# Altium integrated library pi_mipi_dsp.IntLib: 23 symbols
Pins are listed as number, name and electrical type; pins without a type are passive.

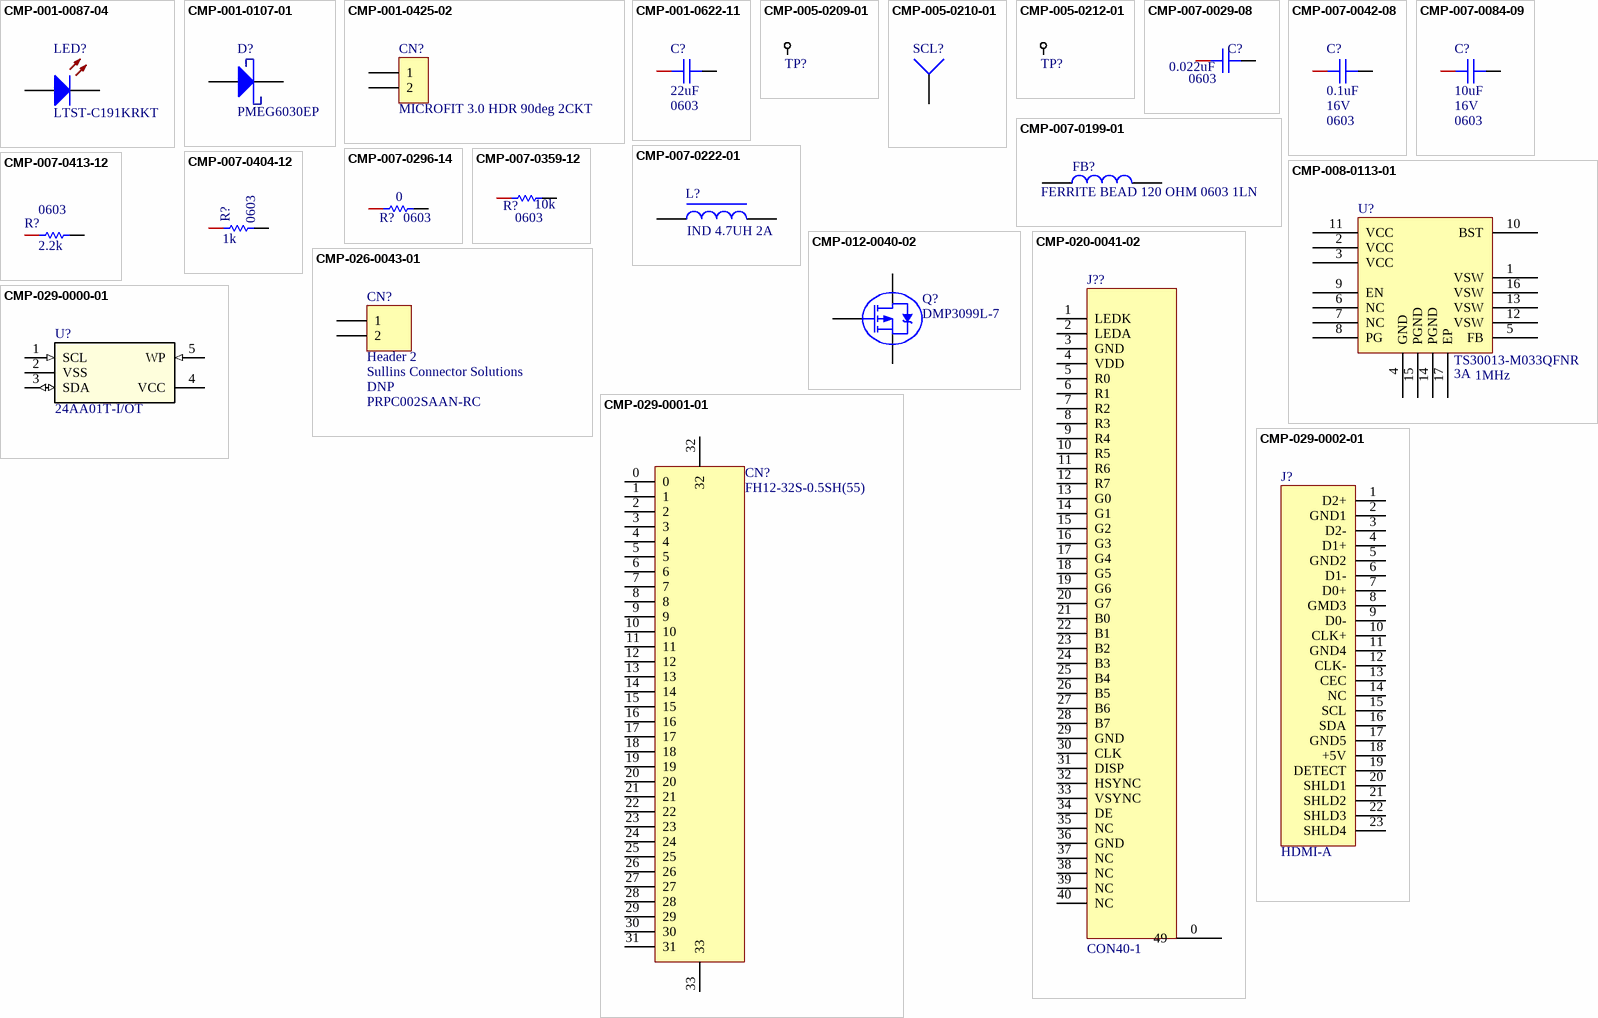
[diagram p0: symbols CMP-001-0087-04 to CMP-029-0002-01]

## CMP-001-0087-04
designator LED?, comment LTST-C191KRKT
0603 SMD RED LED; Manufacturer: Lite-On Inc.; Manufacturer 1: Vishay Lite-On; Lens Style/Size: Rectangle with Flat Top, 1.10mm x 0.80mm; Lens Transparency: Clear; Wavelength - Peak: 639nm; Viewing Angle: 130°; Millicandela Rating: 54mcd; Current - Test: 20mA; Wavelength - Dominant: 631nm; Voltage - Forward (Vf) (Typ): 2V; Lens Color: Colorless; RoHS: RoHS Compliant; Mounting Type: Surface Mount; Color: Red; Packaging: Cut Tape (CT); Part Status: Active; Package / Case: 0603 (1608 Metric); Height: 0.65mm; Size / Dimension: 1.60mm L x 0.80mm W; Pricing 1: 1=0.29, 10=0.211, 25=0.1556, 100=0.1111, 250=0.07556, 500=0.06666, 1000=0.05222, 2500=0.05111 (USD); Pin Count: 2; Stock 1: 513530; Manufacturer Part Number: LTST-C191KRKT; Designator: LTST-C191KRKT; ClassName: *; Manufacturer Part Number 1: LTST-C191KRKT; Component Type: Diode
footprint SM-LED-0603 (0603 LED)
pins: 1 Anode, 2 Cathode

## CMP-001-0107-01
designator D?, comment PMEG6030EP
Schottky Barrier Rectifier 3A 60V; Manufacturer: NXP Semiconductors; Manufacturer Part Number: PMEG6030EP,115; Manufacturer Part Number 1: PMEG6030EP115; Speed: Fast Recovery =< 500ns, > 200mA (Io); Voltage - Forward (Vf) (Max) @ If: 530mV @ 3A; Capacitance @ Vr, F: 360pF @ 1V, 1MHz; Current - Reverse Leakage @ Vr: 200µA @ 60V; Current - Average Rectified (Io): 3A; Packaging: Cut Tape (CT); Stock 1: 40077; Diode Type: Schottky; Supplier Device Package: SOD-128; Operating Temperature - Junction: 150°C (Max); Package / Case: SOD-128; Voltage - DC Reverse (Vr) (Max): 60V; Component Name: PMEG6030EP; ComponentLink1Description: http://www.nxp.com/documents/data_sheet/PMEG6030EP.pdf; ComponentLink1URL: http://www.nxp.com/documents/data_sheet/PMEG6030EP.pdf; Designator: PMEG6030EP; RoHS: RoHS Compliant; Mounting Type: Surface Mount; ClassName: HVolt; Pricing 1: 1=0.45, 10=0.387, 100=0.289, 500=0.227, 1000=0.175 (USD); Reverse Recovery Time (trr): -; Pin Count: 2; Manufacturer 1: NXP Semiconductors; Component Type: Diode
footprint SOD128 (Small Outline Diode 6.2x3.4mm)
pins: 1 A, 2 K

## CMP-001-0425-02
designator CN?, comment MICROFIT 3.0 HDR 90deg 2CKT
Molex Microfit 1x2 90deg Header; Manufacturer Part Number: 43650-0204; Number of Positions: 2; Pitch: 3 mm; Voltage Rating: 600 V; Mounting Angle: Right; Current Rating: 5 A; Contact Plating: Gold; Series: 43650; RoHS: RoHS Compliant; Minimum Order Quantity: 1; Product Category: Micro-Fit 3.0 Connectors; ComponentLink1Description: http://www.mouser.com/ds/2/276/0436500204_PCB_HEADERS-168465.pdf; Type: Shrouded; Designator: MICROFIT 3.0 HDR 90deg 2CKT; Reeling: False; Stock 1: 3217; Packaging: Tray; ComponentLink1URL: http://www.mouser.com/ds/2/276/0436500204_PCB_HEADERS-168465.pdf; Standard Pack Qty: 3927; Number of Rows: 1; Component Name: MICROFIT 3.0 HDR 90deg 2CKT; Manufacturer: Molex; Housing Material: Thermoplastic; Termination Style: Through Hole; Product Type: Headers; Brand: Molex; Mounting Style: -; Tradename: Micro-Fit 3.0; Pin Count: 2; Pricing 1: 1=1.55, 10=1.23, 100=1.01, 500=0.961, 1000=0.855, 2000=0.710 (AUD); ClassName: *; RoHS - Mouser: Y; Contact Material: Brass; Manufacturer 1: Molex; Manufacturer Part Number 1: 43650-0204; Component Type: Connector
footprint Molex 1x2 Microfit 90deg (Connector; Header; 1x2 Position)
pins: 1, 2

## CMP-001-0622-11
designator C?, comment 22uF  Package (Imperial): 0603
CAP CER 22UF 10V 20% 0603; Manufacturer 1: TDK; Manufacturer Part Number 1: C1608X5R1A226M080AC; Voltage (Rated): 100V; Dielectric Material: Ceramic; Temperature Coefficient: X5R; Temperature (Min): -55°C; Package (Metric): 1608; Capacitance: 22µF; Temperature (Max): 85°C; Mounting Type: SMD; Tolerance: 20%; Height: 800µm; Length: 1.6mm; Component Type: Ceramic
footprint CAPC0603(1608)_L (Chip Capacitor, Body 1.6x0.8mm, Height 1.0mm, IPC High Density)
footprint CAPC0603(1608)_M (Chip Capacitor, Body 1.6x0.8mm, Height 1.0mm, IPC Low Density)
footprint CAPC0603(1608)_N (Chip Capacitor, Body 1.6x0.8mm, Height 1.0mm, IPC Medium Density)
pins: 1, 2
1 alternate drawing of the same symbol

## CMP-005-0209-01
designator TP?, comment TestPoint, small  (value not drawn)  (no BOM)
Test Point; Component Name: TestPoint, small; Pin Count: 1; Designator: TestPoint, small
footprint TestPoint-SM (Test Point - Top Pad Only)
footprint HDR1X1 (Connector; Header; 1 Position)
footprint TESTPOINT-2 HOLE
footprint TestPoint-BIG (Test Point - Top Pad Only)
footprint TestPoint-MD (Test Point - Top Pad Only)
footprint TestPoint-TH 20 mil (Test Point - Thru-Hole 20 mil)
footprint TestPoint-TH 35 mil (Test Point - Thru-Hole 38 mil)
footprint TestPoint-TH 42 mil (Test Point - Thru-Hole 42 mil)
pins: 1

## CMP-005-0210-01
designator SCL?, comment TestPoint_BLK  (value not drawn)  (no BOM)
Test Point - Black; Manufacturer: Keystone Electronics; Manufacturer Part Number: 5001; Manufacturer 1: Terminal; Color: Black; ComponentLink1Description: http://www.keyelco.com/product-pdf.cfm?p=1310; ComponentLink1URL: http://www.keyelco.com/product-pdf.cfm?p=1310; Component Name: TestPoint_BLK; Designator: TestPoint_BLK; Material: Base, Nylon 46, UL 94V-0; Mounting Type: 0.040" (1.02mm) Hole Diameter; Packaging: Bulk; Pin Count: 1; Pricing 1: 1=0.37, 10=0.316, 50=0.2298, 100=0.2209, 250=0.19832, 500=0.18932, 1000=0.1616, 2500=0.14424, 5000=0.13523 (USD); RoHS: RoHS Compliant; Stock 1: 335679; Terminal: 0.010" x 0.020" (0.25mm x 0.51mm) Phosphor Bronze Wire, Silver Plated; Type: PC Test Point, Miniature; Manufacturer Part Number 1: 5001; Manufacturer 2: Keystone Electronics; Manufacturer Part Number 2: 5001
footprint TestPoint-TH 42 mil (Test Point - Thru-Hole 42 mil)
pins: 1

## CMP-005-0212-01
designator TP?, comment TestPoint-PC-W  (value not drawn)  (no BOM)
Test Point White; Manufacturer: Keystone Electronics; Manufacturer Part Number: 5002; Material - Insulation: Nylon 46, UL 94V-0; Plating: Silver; Material - Body: Phosphor Bronze; Pin Count: 1; ComponentLink1URL: http://www.keyelco.com/product-pdf.cfm?p=1311; RoHS: RoHS Compliant; Type: PC Test Point, Miniature; Packaging: Bulk; Stock 1: 329102; Height: -; Color: White; Mounting Type: 0.040" (1.02mm) Hole Diameter; Designator: TestPoint-PC-W; Size / Dimension: 0.100" Dia x 0.180" L (2.54mm x 4.57mm); Component Name: TestPoint-PC-W; ComponentLink1Description: http://www.keyelco.com/product-pdf.cfm?p=1311; Pricing 1: 1=0.37, 10=0.316, 50=0.2298, 100=0.2209, 250=0.19832, 1000=0.1616, 2500=0.14424, 5000=0.13523 (USD); Part Status: Active; Manufacturer 1: Keystone Electronics; Manufacturer Part Number 1: 5002; Manufacturer 2: Permabond; Manufacturer Part Number 2: 5002
footprint TestPoint-TH 40 mil (Test Point - Thru-Hole 40)
pins: 1

## CMP-007-0029-08
designator C?, comment 0.022uF  Package (Imperial): 0603
CAP CER 0.022UF 25V 5% X7R 0603; Manufacturer 1: KEMET; Manufacturer Part Number 1: C0603C223J3RACTU; Dielectric Material: Ceramic; Capacitance: 22nF; Package (Metric): 1608; Voltage (Rated): 25V; Temperature Coefficient: X7R; Tolerance: 5%; Mounting Type: SMD; Component Type: Ceramic
footprint CAPC0603(1608)_M (Chip Capacitor, Body 1.6x0.8mm, Height 1.0mm, IPC Low Density)
footprint CAPC0603(1608)_L (Chip Capacitor, Body 1.6x0.8mm, Height 1.0mm, IPC High Density)
footprint CAPC0603(1608)_N (Chip Capacitor, Body 1.6x0.8mm, Height 1.0mm, IPC Medium Density)
pins: 1, 2
1 alternate drawing of the same symbol

## CMP-007-0042-08
designator C?, comment 0.1uF  Voltage (Rated): 16V  Package (Imperial): 0603
CAP CER 0.1UF 16V 10% X7R 0603; Manufacturer 1: Wurth Electronics; Manufacturer Part Number 1: 885012206046; Package (Metric): 1608; Dielectric Material: Ceramic; Capacitance: 100nF; Tolerance: 10%; Temperature Coefficient: X7R; Mounting Type: SMD; Component Type: Ceramic
footprint CAPC0603(1608)_M (Chip Capacitor, Body 1.6x0.8mm, Height 1.0mm, IPC Low Density)
footprint CAPC0603(1608)_L (Chip Capacitor, Body 1.6x0.8mm, Height 1.0mm, IPC High Density)
footprint CAPC0603(1608)_N (Chip Capacitor, Body 1.6x0.8mm, Height 1.0mm, IPC Medium Density)
pins: 1, 2
1 alternate drawing of the same symbol

## CMP-007-0084-09
designator C?, comment 10uF  Voltage (Rated): 16V  Package (Imperial): 0603
CAP CER 10UF 16V 20% X5R 0603; Manufacturer 1: Murata; Manufacturer Part Number 1: GRM188C81C106MA73D; Capacitance: 10µF; Dielectric Material: Ceramic; Package (Metric): 1608; Temperature Coefficient: X5R; Tolerance: 20%; Mounting Type: SMD; Manufacturer 2: Samsung; Manufacturer Part Number 2: CL10A106MO8NQNC; Manufacturer 3: Murata; Manufacturer Part Number 3: GRM188R61C106MA73D; Component Type: Ceramic
footprint CAPC0603(1608)_M (Chip Capacitor, Body 1.6x0.8mm, Height 1.0mm, IPC Low Density)
footprint CAPC0603(1608)_L (Chip Capacitor, Body 1.6x0.8mm, Height 1.0mm, IPC High Density)
footprint CAPC0603(1608)_N (Chip Capacitor, Body 1.6x0.8mm, Height 1.0mm, IPC Medium Density)
pins: 1, 2
1 alternate drawing of the same symbol

## CMP-007-0199-01
designator FB?, comment FERRITE BEAD 120 OHM 0603 1LN
FERRITE 120 OHM 0603 500mA; Manufacturer Part Number: MMZ1608R121ATA00; Manufacturer: TDK Corporation; Manufacturer 1: TDK; DC Resistance (DCR) (Max): 180 mOhm; Impedance @ Frequency: 120 Ohm @ 100MHz; Filter Type: Signal Line; Number of Lines: 1; Operating Temperature: -55°C ~ 125°C; ClassName: *; Part Status: Active; Packaging: Cut Tape (CT); Creator: *; Mounting Type: Surface Mount; ComponentLink1URL: https://product.tdk.com/info/en/catalog/datasheets/beads_commercial_signal_mmz1608_en.pdf; Stock 1: 21122; ComponentLink1Description: https://product.tdk.com/info/en/catalog/datasheets/beads_commercial_signal_mmz1608_en.pdf; Component Name: FERRITE BEAD 120 OHM 0603 1LN; Pricing 1: 1=0.1, 10=0.073, 100=0.0436, 250=0.03168, 500=0.02904, 1000=0.02508 (USD); Ratings: -; Package / Case: 0603 (1608 Metric); RoHS: RoHS Compliant; Designator: FERRITE BEAD 120 OHM 0603 1LN; Height (Max): 0.037" (0.95mm); Current Rating (Max): 500mA; Size / Dimension: 0.063" L x 0.031" W (1.60mm x 0.80mm); Pin Count: 2; Manufacturer Part Number 1: MMZ1608R121ATA00
footprint RESC0603(1608)_N (Chip Resistor, Body 1.6x0.8mm, IPC Medium Density)
footprint RESC0603(1608)_L (Chip Resistor, Body 1.6x0.8mm, IPC High Density)
footprint RESC0603(1608)_M (Chip Resistor, Body 1.6x0.8mm, IPC Low Density)
pins: 1, 2

## CMP-007-0222-01
designator L?, comment IND 4.7UH 2A
4.7uH 5.2mmx5.2mm; Manufacturer: Bourns Inc.; Manufacturer Part Number: SRU5018-4R7Y; Manufacturer 1: Bourns; DC Resistance (DCR): 36 mOhm; Inductance: 4.7µH; Shielding: Shielded; Tolerance: ±30%; Type: Wirewound; Current - Saturation: 1.55A; Material - Core: Ferrite; Designator: IND 4.7UH 2A 36 MOHM SMD; Q @ Freq: 8.5 @ 7.96MHz; Frequency - Self Resonant: 80MHz; Frequency - Test: 100kHz; Current Rating: 2A; Stock 1: 2515; Operating Temperature: -40°C ~ 125°C; ClassName: *; RoHS: RoHS Compliant; Mounting Type: Surface Mount; ComponentLink1URL: http://www.bourns.com/docs/Product-Datasheets/SRU5018.pdf; Ratings: -; ComponentLink1Description: http://www.bourns.com/docs/Product-Datasheets/SRU5018.pdf; Pin Count: 2; Package / Case: Nonstandard; Component Name: IND 4.7UH 2A 36 MOHM SMD; Pricing 1: 1=0.68, 10=0.608, 25=0.57, 50=0.494, 100=0.456, 250=0.4332, 500=0.3952 (USD); Packaging: Cut Tape (CT); Size / Dimension: 0.205" L x 0.205" W (5.20mm x 5.20mm); Height - Seated (Max): 0.079" (2.00mm); Manufacturer Part Number 1: SRU5018-4R7Y
footprint INDUCTOR 5.2x5.2mm SMD (10.2x10.2mm Power Inductor)
pins: 1, 3 2

## CMP-007-0296-14
designator R?, comment Package (Imperial): 0603  Resistance: 0  (hidden comment: 0.0)
RES 0.0 OHM 1/10W 0603; Manufacturer 1: Stackpole Electronics; Manufacturer Part Number 1: RMCF0603ZT0R00; Tolerance: 0%; Power: 100mW; Package (Metric): 1608; Termination: SMD/SMT; Operating Temperature: -55°C ~ 155°C; Height: 550µm; Temperature Coefficient: -; Component Type: Resistor
footprint RESC0603(1608)_N (Chip Resistor, Body 1.6x0.8mm, IPC Medium Density)
footprint RESC0603(1608)_M (Chip Resistor, Body 1.6x0.8mm, IPC Low Density)
footprint RESC0603(1608)_L (Chip Resistor, Body 1.6x0.8mm, IPC High Density)
pins: 1, 2

## CMP-007-0359-12
designator R?, comment Package (Imperial): 0603  (hidden comment: 10K)
RES 10K OHM 1/10W 1% 0603 SMD; Manufacturer 1: TE Connectivity; Manufacturer Part Number 1: CRG0603F10K; Package (Metric): 1608; Power: 100mW; Temperature Coefficient: ±100ppm/°C; Height: 550µm; Resistance: 10k; Termination: SMD/SMT; Tolerance: 1%; Component Type: Resistor
footprint RESC0603(1608)_M (Chip Resistor, Body 1.6x0.8mm, IPC Low Density)
footprint RESC0603(1608)_L (Chip Resistor, Body 1.6x0.8mm, IPC High Density)
footprint RESC0603(1608)_N (Chip Resistor, Body 1.6x0.8mm, IPC Medium Density)
pins: 1, 2

## CMP-007-0404-12
designator R?, comment Package (Imperial): 0603  Resistance: 1k  (hidden comment: 1.0K)
RES 1K OHM 1% 1/10W 0603; Temperature Coefficient: ±100ppm/°C; Power: 100mW; Package (Metric): 2012; Operating Temperature: -55°C ~ 155°C; Tolerance: 1%; Termination: SMD/SMT; Height: 550µm; Component Type: Resistor
footprint RESC0603(1608)_M (Chip Resistor, Body 1.6x0.8mm, IPC Low Density)
footprint RESC0603(1608)_L (Chip Resistor, Body 1.6x0.8mm, IPC High Density)
footprint RESC0603(1608)_N (Chip Resistor, Body 1.6x0.8mm, IPC Medium Density)
pins: 1, 2

## CMP-007-0413-12
designator R?, comment Package (Imperial): 0603  (hidden comment: 2.2K)
RES 2.2K OHM 1/10W 5% 0603 SMD; Manufacturer 1: Yageo; Manufacturer Part Number 1: RC0603FR-072K2L; Power: 100mW; Package (Metric): 1608; Temperature Coefficient: ±200ppm/°C; Termination: SMD/SMT; Height: 550µm; Tolerance: 5%; Resistance: 2.2k; Component Type: Resistor
footprint RESC0603(1608)_N (Chip Resistor, Body 1.6x0.8mm, IPC Medium Density)
footprint RESC0603(1608)_M (Chip Resistor, Body 1.6x0.8mm, IPC Low Density)
footprint RESC0603(1608)_L (Chip Resistor, Body 1.6x0.8mm, IPC High Density)
pins: 1, 2

## CMP-008-0113-01
designator U?, comment TS30013-M033QFNR  Current - Output: 3A  Frequency - Switching: 1MHz
IC REG BUCK 3.3V 3A SYNC 16QFN; Manufacturer: Semtech Corporation; Manufacturer 1: Semtech; Synchronous Rectifier: Yes; Voltage - Input (Max): 18V; Output Type: Fixed; Function: Step-Down; Output Configuration: Positive; Voltage - Input (Min): 4.5V; Number of Outputs: 1; Voltage - Output (Min/Fixed): 3.3V; Pin Count: 17; Package / Case: 16-VFQFN Exposed Pad; Mounting Type: Surface Mount; ComponentLink1URL: http://www.semtech.com/images/datasheet/ts30011_12_13.pdf; Stock 1: 11697; ComponentLink1Description: http://www.semtech.com/images/datasheet/ts30011_12_13.pdf; Topology: Buck; Part Status: Active; Designator: TS30013-M033QFNR; RoHS: RoHS Compliant; Supplier Device Package: 16-QFN (3x3); Class Name: *; Packaging: Cut Tape (CT); Operating Temperature: -40°C ~ 125°C (TJ); Manufacturer Part Number: TS30013-M033QFNR; Voltage - Output (Max): -; Pricing 1: 1=1.19, 10=1.054, 25=0.9516, 100=0.8328, 250=0.7308, 500=0.64582, 1000=0.50985 (USD); Component Name: TS30013-M033QFNR; Manufacturer Part Number 1: TS30013-M033QFNR
footprint QFN50P300X300X100_HS-17M (QFN, 16-Leads, Body 3.00x3.00mm, Pitch 0.50mm, Thermal Pad 1.70x1.70mm, IPC Low Density)
pins: 1 VSW, 2 VCC (power), 3 VCC (power), 4 GND (power), 5 FB, 6 NC, 7 NC, 8 PG, 9 EN, 10 BST (power), 11 VCC (power), 12 VSW, 13 VSW, 14 PGND (power), 15 PGND (power), 16 VSW, 17 EP (power)

## CMP-012-0040-02
designator Q?, comment DMP3099L-7
MOSFET P-CH 30V SOT23; Manufacturer: Diodes Incorporated; Manufacturer 1: Diodes; Drive Voltage (Max Rds On,  Min Rds On): 4.5V, 10V; Current - Continuous Drain (Id) @ 25°C: 3.8A (Ta); Vgs(th) (Max) @ Id: 2.1V @ 250µA; Rds On (Max) @ Id, Vgs: 65 mOhm @ 3.8A, 10V; FET Type: P-Channel; Power Dissipation (Max): 1.08W (Ta); Vgs (Max): ±20V; Component Name: DMP3099L-7; Operating Temperature: -55°C ~ 150°C (TJ); Mounting Type: Surface Mount; Technology: MOSFET (Metal Oxide); Stock 1: 138833; Pin Count: 3; RoHS: RoHS Compliant; Supplier Device Package: SOT-23; FET Feature: -; ComponentLink1URL: https://www.diodes.com/assets/Datasheets/DMP3099L.pdf; Designator: DMP3099L-7; Pricing 1: 1=0.42, 10=0.306, 100=0.1801, 500=0.10198, 1000=0.07818 (USD); Packaging: Cut Tape (CT); Part Status: Active; Package / Case: TO-236-3, SC-59, SOT-23-3; ComponentLink1Description: https://www.diodes.com/assets/Datasheets/DMP3099L.pdf; Manufacturer Part Number: DMP3099L-7; Manufacturer Part Number 1: DMP3099L-7; Component Type: Transistor
footprint SOT23 (SOT-23; 3 Leads; Body 3.0 x 2.5 mm, inc. leads (LxW max))
pins: 1 G, 2 S, 3 D

## CMP-020-0041-02
designator J??, comment CON40-1
40pin PH0.5 FPC for LCD; Manufacturer: Molex, LLC; Manufacturer Part Number: 0541044031; Voltage Rating: 50V; Pitch: 0.020" (0.50mm); Flat Flex Type: FFC, FPC; Mating Cycles: 20; Current Rating: 0.5A; Material Flammability Rating: UL94 V-0; FFC, FCB Thickness: 0.30mm; Number of Positions: 40; Locking Feature: Slide Lock; Termination: Solder; ComponentLink1URL: https://www.molex.com/pdm_docs/sd/541044031_sd.pdf; Pin Count: 41; Component Name: CON40-1; ComponentLink1Description: https://www.molex.com/pdm_docs/sd/541044031_sd.pdf; Height Above Board: 0.079" (2.00mm); RoHS: RoHS Compliant; Mounting Type: Surface Mount, Right Angle; Housing Material: Polyamide (PA46), Nylon 4/6, Glass Filled; Stock 1: 10041; Part Status: Active; Designator: CON40-1; Pricing 1: 1=2.8, 10=2.686, 25=2.4624, 50=2.3506, 100=2.2387, 250=1.95888, 500=1.90292 (USD); Housing Color: White; Operating Temperature: -20°C ~ 85°C; Packaging: Cut Tape (CT); Features: Solder Retention, Zero Insertion Force (ZIF); Manufacturer 1: 0541044031; Manufacturer Part Number 1: 0541044031; Manufacturer 2: Molex; Manufacturer Part Number 2: 54104-4031
footprint SMD FPC SOCKET HD-0.5X40-2
pins: 0 49, 1 LEDK, 2 LEDA, 3 GND, 4 VDD, 5 R0, 6 R1, 7 R2, 8 R3, 9 R4, 10 R5, 11 R6, 12 R7, 13 G0, 14 G1, 15 G2, 16 G3, 17 G4, 18 G5, 19 G6, 20 G7, 21 B0, 22 B1, 23 B2, 24 B3, 25 B4, 26 B5, 27 B6, 28 B7, 29 GND, 30 CLK, 31 DISP, 32 HSYNC, 33 VSYNC, 34 DE, 35 NC, 36 GND, 37 NC, 38 NC, 39 NC, 40 NC

## CMP-026-0043-01
designator CN?, comment Header 2  Manufacturer: Sullins Connector Solutions  Populate: DNP  Manufacturer Part Number: PRPC002SAAN-RC
Header, 2-Pin; Manufacturer 1: Sullins; Connector Type: Header, Unshrouded, Breakaway; Number of Positions Loaded: All; Number of Positions: 2; Pitch: 0.100" (2.54mm); Contact Mating Length: 0.230" (5.84mm); Features: -; ComponentLink1Description: http://media.digikey.com/PDF/Data%20Sheets/Sullins%20PDFs/xRxCzzzSxxN-RC_ST_11635-B.pdf; Mounting Type: Through Hole; Pricing 1: 1=0.16, 10=0.145, 100=0.1198, 500=0.09466, 1000=0.08127, 5000=0.07414, 10000=0.07129 (USD); Component Name: Header 2; RoHS: RoHS Compliant; Contact Finish: Gold; Contact Type: Male Pin; Packaging: Bulk; Number of Rows: 1; Stock 1: 4300; ComponentLink1URL: http://media.digikey.com/PDF/Data%20Sheets/Sullins%20PDFs/xRxCzzzSxxN-RC_ST_11635-B.pdf; Pin Count: 2; Fastening Type: -; Contact Finish Thickness: Flash; Row Spacing: -; Color: Black; Termination: Solder; Designator: Header 2; Manufacturer Part Number 1: PRPC002SAAN-RC
footprint HDR1X2
pins: 1, 2

## CMP-029-0000-01
designator U?, comment 24AA01T-I/OT
Imported; Built_By: EMA_UL_Team; Vendor: Microchip; C: Copyright (C) 2015 Accelerated Designs. All rights reserved; Value: Value; Pin Count: 5; Source: hdmi_lvds_2.SchLib; Manufacturer_Part_Number: 24AA01T-I/OT; Type: DEV; Design Item ID: 24AA01T-I/OT; RefDes: RefDes; Designator: 24AA01T-I/OT; Manufacturer 1: Microchip; Manufacturer Part Number 1: 24AA01T-I/OT; Component Type: hdmi_lvds_2
footprint SOT-23-5_MC
pins: 1 SCL (in), 2 VSS, 3 SDA (io), 4 VCC, 5 WP (in)

## CMP-029-0001-01
designator CN?, comment FH12-32S-0.5SH(55)
Manufacturer 1: Hirose; Pin Count: 34; Source: hdmi_lvds_2.SchLib; Design Item ID: FH12-32S-0.5SH; Designator: FH12-32S-0.5SH; Manufacturer Part Number 1: FH12-32S-0.5SH(55); Component Type: hdmi_lvds_2
footprint FH12-32S-0,5SH (LVDS_FPC_30)
pins: 0, 1, 2, 3, 4, 5, 6, 7, 8, 9, 10, 11, 12, 13, 14, 15, 16, 17, 18, 19, 20, 21, 22, 23, 24, 25, 26, 27, 28, 29, 30, 31, 32, 33

## CMP-029-0002-01
designator J?, comment HDMI-A
Manufacturer 1: Molex; Manufacturer Part Number 1: 47151-0001; Pin Count: 23; Designator: HDMI-A; Source: hdmi_lvds_2.SchLib; Design Item ID: HDMI-A; Component Type: hdmi_lvds_2
footprint HDMI (HDMI normal)
pins: 1 D2+, 2 GND1, 3 D2-, 4 D1+, 5 GND2, 6 D1-, 7 D0+, 8 GMD3, 9 D0-, 10 CLK+, 11 GND4, 12 CLK-, 13 CEC, 14 NC, 15 SCL, 16 SDA, 17 GND5, 18 +5V, 19 DETECT, 20 SHLD1, 21 SHLD2, 22 SHLD3, 23 SHLD4